# Altium integrated library FPGA 32-Bit Processors.IntLib: 7 symbols
Pins are listed as number, name and electrical type; pins without a type are passive.

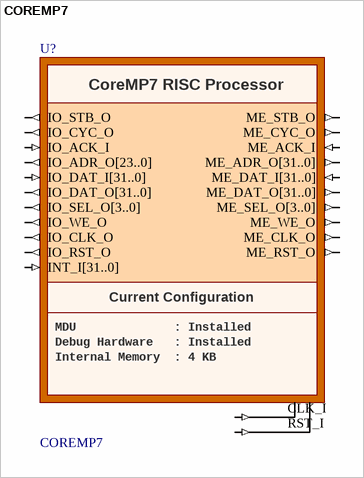
[diagram p0: symbol COREMP7]

## COREMP7
designator U?
Actel CoreMP7 RISC Processor; Nexus_JTAG_Device: True; Nexus_Core: Processor_OCDS; Nexus_JTAG_Order: 0; ConfigurationParameters: {}Version[1.0]{}Option_Processor[8]{}Option_Memory[2]{}Option_MDU[0]{}Option_OCDS[0]{}Option_Shifter[0]{}Option_InterruptCount[32]{}Option_DebugWhenReset[0]{}; ConfiguratorName: FPGA_MCU32; ProgramLogicalTopAddress: 0; ComponentLink1Description: Core &Resource Usage; ComponentLink1URL: CR0140 FPGA Processor Resource Usage.pdf#page=2; HelpURL: https://wiki.altium.com/display/ADOH/Actel+CoreMP7; LastRevisionNo: 1.00.00; Published: 03-May-2007; Publisher: Altium Limited; ComponentLink2Description: Embedded &Tools Guide; ComponentLink2URL: https://wiki.altium.com/download/attachments/3080681/GU0116+Using+the+ARM+Embedded+Tools.pdf?version=1; ComponentLink3Description: Embedded T&echnical References; ComponentLink3URL: https://wiki.altium.com/download/attachments/3080681/TR0131+ARM+Embedded+Tools+Reference.pdf?version=1; ComponentLink4Description: Manufacturers D&ata Sheet; ComponentLink4URL: http://www.actel.com/documents/CoreMP7_DS.pdf
pins: CLK_I (in), INT_I[31..0] (in), IO_ACK_I (in), IO_ADR_O[23..0] (out), IO_CLK_O (out), IO_CYC_O (out), IO_DAT_I[31..0] (in), IO_DAT_O[31..0] (out), IO_RST_O (out), IO_SEL_O[3..0] (out), IO_STB_O (out), IO_WE_O (out), ME_ACK_I (in), ME_ADR_O[31..0] (out), ME_CLK_O (out), ME_CYC_O (out), ME_DAT_I[31..0] (in), ME_DAT_O[31..0] (out), ME_RST_O (out), ME_SEL_O[3..0] (out), ME_STB_O (out), ME_WE_O (out), RST_I (in)
text: CoreMP7 RISC Processor; Current Configuration; MDU              : Installed; Debug Hardware   : Installed; Internal Memory  : 4 KB


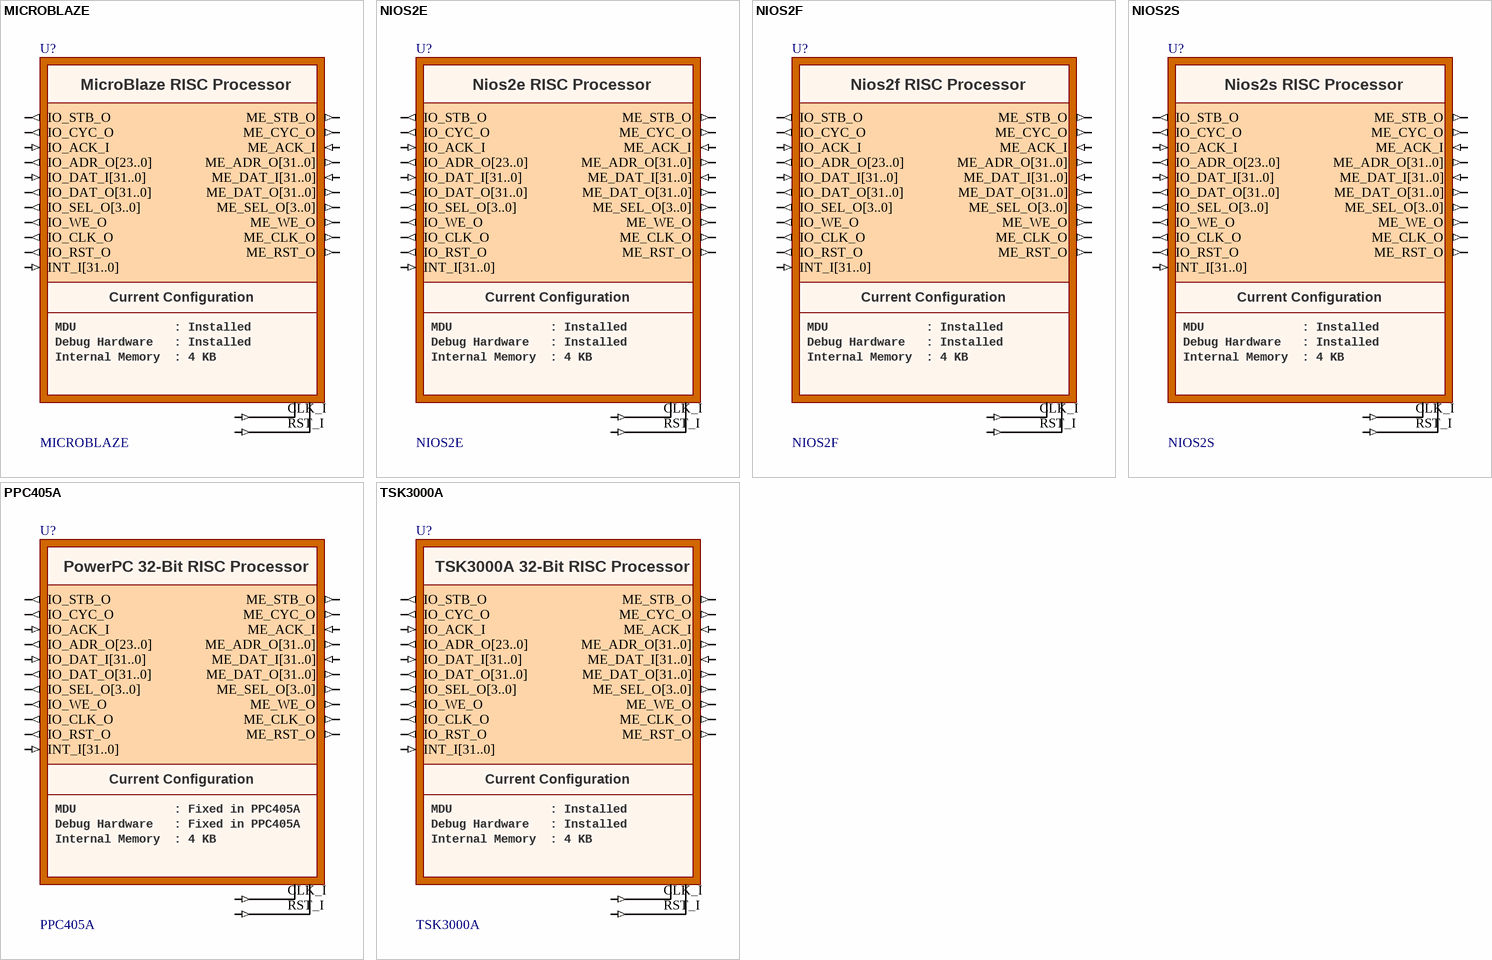
[diagram p1: symbols MICROBLAZE to TSK3000A]

## MICROBLAZE
designator U?
Xilinx MicroBlaze RISC Processor; ChildModel1: microblaze_0_wrapper.NGC; Nexus_JTAG_Device: True; Nexus_Core: Processor_OCDS; Nexus_JTAG_Order: 0; ConfigurationParameters: {}Version[1.0]{}Option_Processor[3]{}Option_Memory[2]{}Option_MDU[0]{}Option_OCDS[0]{}Option_Shifter[0]{}Option_InterruptCount[32]{}Option_DebugWhenReset[0]{}; ConfiguratorName: FPGA_MCU32; ProgramLogicalTopAddress: 0; LastRevisionNo: 1.00.00; Published: 26-Sep-2005; Publisher: Altium Limited; ComponentLink1Description: Core &Resource Usage; ComponentLink2Description: Embedded &Tools Guide; ComponentLink2URL: https://wiki.altium.com/download/attachments/3080677/GU0114+Using+the+MicroBlaze+Embedded+Tools.pdf?version=1; ComponentLink3Description: Embedded T&echnical References; ComponentLink3URL: https://wiki.altium.com/download/attachments/3080677/TR0129+MicroBlaze+Embedded+Tools+Reference.pdf?version=1; HelpURL: https://wiki.altium.com/display/ADOH/Xilinx+MicroBlaze; ComponentLink1URL: CR0140 FPGA Processor Resource Usage.pdf#page=3; ComponentLink4Description: Manufacturers D&ata Sheet; ComponentLink4URL: http://www.xilinx.com/ise/embedded/mb_ref_guide.pdf
pins: CLK_I (in), INT_I[31..0] (in), IO_ACK_I (in), IO_ADR_O[23..0] (out), IO_CLK_O (out), IO_CYC_O (out), IO_DAT_I[31..0] (in), IO_DAT_O[31..0] (out), IO_RST_O (out), IO_SEL_O[3..0] (out), IO_STB_O (out), IO_WE_O (out), ME_ACK_I (in), ME_ADR_O[31..0] (out), ME_CLK_O (out), ME_CYC_O (out), ME_DAT_I[31..0] (in), ME_DAT_O[31..0] (out), ME_RST_O (out), ME_SEL_O[3..0] (out), ME_STB_O (out), ME_WE_O (out), RST_I (in)
text: MicroBlaze RISC Processor; Current Configuration; MDU              : Installed; Debug Hardware   : Installed; Internal Memory  : 4 KB

## NIOS2E
designator U?
Altera Nios2e RISC Processor; Nexus_JTAG_Device: True; Nexus_Core: Processor_OCDS; Nexus_JTAG_Order: 0; ConfigurationParameters: {}Version[1.0]{}Option_Processor[5]{}Option_Memory[2]{}Option_MDU[0]{}Option_OCDS[0]{}Option_Shifter[0]{}Option_InterruptCount[32]{}Option_DebugWhenReset[0]{}; ConfiguratorName: FPGA_MCU32; ProgramLogicalTopAddress: 0; ComponentLink1Description: Core &Resource Usage; ComponentLink1URL: CR0140 FPGA Processor Resource Usage.pdf#page=4; HelpURL: https://wiki.altium.com/display/ADOH/Altera+Nios+II; LastRevisionNo: 1.00.00; Published: 16-May-2006; Publisher: Altium Limited; ComponentLink2Description: Embedded &Tools Guide; ComponentLink2URL: https://wiki.altium.com/download/attachments/3080679/GU0115+Using+the+Nios+II+Embedded+Tools.pdf?version=1; ComponentLink3Description: Embedded T&echnical References; ComponentLink3URL: https://wiki.altium.com/download/attachments/3080679/TR0130+Nios+II+Embedded+Tools+Reference.pdf?version=1; ComponentLink4Description: Manufacturers D&ata Sheet; ComponentLink4URL: http://www.altera.com/literature/lit-nio2.jsp
pins: CLK_I (in), INT_I[31..0] (in), IO_ACK_I (in), IO_ADR_O[23..0] (out), IO_CLK_O (out), IO_CYC_O (out), IO_DAT_I[31..0] (in), IO_DAT_O[31..0] (out), IO_RST_O (out), IO_SEL_O[3..0] (out), IO_STB_O (out), IO_WE_O (out), ME_ACK_I (in), ME_ADR_O[31..0] (out), ME_CLK_O (out), ME_CYC_O (out), ME_DAT_I[31..0] (in), ME_DAT_O[31..0] (out), ME_RST_O (out), ME_SEL_O[3..0] (out), ME_STB_O (out), ME_WE_O (out), RST_I (in)
text: Nios2e RISC Processor; Current Configuration; MDU              : Installed; Debug Hardware   : Installed; Internal Memory  : 4 KB

## NIOS2F
designator U?
Altera Nios2f RISC Processor; Nexus_JTAG_Device: True; Nexus_Core: Processor_OCDS; Nexus_JTAG_Order: 0; ConfigurationParameters: {}Version[1.0]{}Option_Processor[7]{}Option_Memory[2]{}Option_MDU[0]{}Option_OCDS[0]{}Option_Shifter[0]{}Option_InterruptCount[32]{}Option_DebugWhenReset[0]{}; ConfiguratorName: FPGA_MCU32; ProgramLogicalTopAddress: 0; ComponentLink1Description: Core &Resource Usage; ComponentLink1URL: CR0140 FPGA Processor Resource Usage.pdf#page=4; HelpURL: https://wiki.altium.com/display/ADOH/Altera+Nios+II; LastRevisionNo: 1.00.00; Published: 16-May-2006; Publisher: Altium Limited; ComponentLink2Description: Embedded &Tools Guide; ComponentLink2URL: https://wiki.altium.com/download/attachments/3080679/GU0115+Using+the+Nios+II+Embedded+Tools.pdf?version=1; ComponentLink3Description: Embedded T&echnical References; ComponentLink3URL: https://wiki.altium.com/download/attachments/3080679/TR0130+Nios+II+Embedded+Tools+Reference.pdf?version=1; ComponentLink4Description: Manufacturers D&ata Sheet; ComponentLink4URL: http://www.altera.com/literature/lit-nio2.jsp
pins: CLK_I (in), INT_I[31..0] (in), IO_ACK_I (in), IO_ADR_O[23..0] (out), IO_CLK_O (out), IO_CYC_O (out), IO_DAT_I[31..0] (in), IO_DAT_O[31..0] (out), IO_RST_O (out), IO_SEL_O[3..0] (out), IO_STB_O (out), IO_WE_O (out), ME_ACK_I (in), ME_ADR_O[31..0] (out), ME_CLK_O (out), ME_CYC_O (out), ME_DAT_I[31..0] (in), ME_DAT_O[31..0] (out), ME_RST_O (out), ME_SEL_O[3..0] (out), ME_STB_O (out), ME_WE_O (out), RST_I (in)
text: Nios2f RISC Processor; Current Configuration; MDU              : Installed; Debug Hardware   : Installed; Internal Memory  : 4 KB

## NIOS2S
designator U?
Altera Nios2s RISC Processor; Nexus_JTAG_Device: True; Nexus_Core: Processor_OCDS; Nexus_JTAG_Order: 0; ConfigurationParameters: {}Version[1.0]{}Option_Processor[6]{}Option_Memory[2]{}Option_MDU[0]{}Option_OCDS[0]{}Option_Shifter[0]{}Option_InterruptCount[32]{}Option_DebugWhenReset[0]{}; ConfiguratorName: FPGA_MCU32; ProgramLogicalTopAddress: 0; ComponentLink1Description: Core &Resource Usage; ComponentLink1URL: CR0140 FPGA Processor Resource Usage.pdf#page=4; HelpURL: https://wiki.altium.com/display/ADOH/Altera+Nios+II; LastRevisionNo: 1.00.00; Published: 16-May-2006; Publisher: Altium Limited; ComponentLink2Description: Embedded &Tools Guide; ComponentLink2URL: https://wiki.altium.com/download/attachments/3080679/GU0115+Using+the+Nios+II+Embedded+Tools.pdf?version=1; ComponentLink3Description: Embedded T&echnical References; ComponentLink3URL: https://wiki.altium.com/download/attachments/3080679/TR0130+Nios+II+Embedded+Tools+Reference.pdf?version=1; ComponentLink4Description: Manufacturers D&ata Sheet; ComponentLink4URL: http://www.altera.com/literature/lit-nio2.jsp
pins: CLK_I (in), INT_I[31..0] (in), IO_ACK_I (in), IO_ADR_O[23..0] (out), IO_CLK_O (out), IO_CYC_O (out), IO_DAT_I[31..0] (in), IO_DAT_O[31..0] (out), IO_RST_O (out), IO_SEL_O[3..0] (out), IO_STB_O (out), IO_WE_O (out), ME_ACK_I (in), ME_ADR_O[31..0] (out), ME_CLK_O (out), ME_CYC_O (out), ME_DAT_I[31..0] (in), ME_DAT_O[31..0] (out), ME_RST_O (out), ME_SEL_O[3..0] (out), ME_STB_O (out), ME_WE_O (out), RST_I (in)
text: Nios2s RISC Processor; Current Configuration; MDU              : Installed; Debug Hardware   : Installed; Internal Memory  : 4 KB

## PPC405A
designator U?
Xilinx PowerPC PPC405 RISC Processor (Virtex-4); ChildModel1: TSK3000A_MCU; Nexus_JTAG_Device: True; Nexus_Core: Processor_OCDS; Nexus_JTAG_Order: 0; ChildModel2: TSK3000A_MDU; ChildModel3: TSK3000A_OCDS; ChildModel4: TSK3000A_Shift_Barrel; ChildModel5: TSK3000A_Shift_Sequential; ChildModel6: Mult_32x32; ConfigurationParameters: {}Option_Processor[1]{}Option_Memory[2]{}Option_MDU[0]{}Option_OCDS[0]{}Option_Shifter[0]{}Option_InterruptCount[32]{}Option_DebugWhenReset[0]{}; ChildModel7: m33x33; ConfiguratorName: FPGA_MCU32; ProgramLogicalTopAddress: 0; ComponentLink1Description: Core &Resource Usage; ComponentLink1URL: CR0140 FPGA Processor Resource Usage.pdf#page=6; HelpURL: https://wiki.altium.com/display/ADOH/Xilinx+PowerPC+%28PPC405A%29; LastRevisionNo: 1.00.00; Published: 17-Nov-2004; Publisher: Altium Limited; ComponentLink2Description: Embedded &Tools Guide; ComponentLink2URL: https://wiki.altium.com/download/attachments/3080683/GU0110+Using+the+PowerPC+Embedded+Tools.pdf?version=1; ComponentLink3Description: Embedded T&echnical References; ComponentLink3URL: https://wiki.altium.com/download/attachments/3080683/TR0108+PowerPC+Embedded+Tools+Reference.pdf?version=1
pins: CLK_I (in), INT_I[31..0] (in), IO_ACK_I (in), IO_ADR_O[23..0] (out), IO_CLK_O (out), IO_CYC_O (out), IO_DAT_I[31..0] (in), IO_DAT_O[31..0] (out), IO_RST_O (out), IO_SEL_O[3..0] (out), IO_STB_O (out), IO_WE_O (out), ME_ACK_I (in), ME_ADR_O[31..0] (out), ME_CLK_O (out), ME_CYC_O (out), ME_DAT_I[31..0] (in), ME_DAT_O[31..0] (out), ME_RST_O (out), ME_SEL_O[3..0] (out), ME_STB_O (out), ME_WE_O (out), RST_I (in)
text: PowerPC 32-Bit RISC Processor; Current Configuration; MDU              : Fixed in PPC405A; Debug Hardware   : Fixed in PPC405A; Internal Memory  : 4 KB

## TSK3000A
designator U?
TSK3000A OCD Microprocessor; ChildModel1: TSK3000A_MCU; Nexus_JTAG_Device: True; Nexus_Core: Processor_OCDS; Nexus_JTAG_Order: 0; ChildModel2: TSK3000A_MDU; ChildModel3: TSK3000A_OCDS; ChildModel4: TSK3000A_Shift_Barrel; ChildModel5: TSK3000A_Shift_Sequential; ChildModel6: Mult_32x32; ConfigurationParameters: {}Option_Memory[2]{}Option_MDU[0]{}Option_OCDS[0]{}Option_Shifter[0]{}Option_InterruptCount[32]{}Option_InterruptCount[32]{}; ChildModel7: m33x33; ConfiguratorName: FPGA_MCU32; ProgramLogicalTopAddress: 0; ComponentLink1Description: Core &Resource Usage; ComponentLink1URL: CR0140 FPGA Processor Resource Usage.pdf#page=22; HelpURL: https://wiki.altium.com/display/ADOH/TSK3000A; LastRevisionNo: 1.00.00; Published: 17-Nov-2004; Publisher: Altium Limited; ComponentLink2Description: Embedded &Tools Guide; ComponentLink2URL: https://wiki.altium.com/download/attachments/3080675/GU0111+Using+the+TSK3000+Embedded+Tools.pdf?version=1; ComponentLink3Description: Embedded T&echnical References; ComponentLink3URL: https://wiki.altium.com/download/attachments/3080675/TR0109+TSK3000+Embedded+Tools+Reference.pdf?version=1
pins: CLK_I (in), INT_I[31..0] (in), IO_ACK_I (in), IO_ADR_O[23..0] (out), IO_CLK_O (out), IO_CYC_O (out), IO_DAT_I[31..0] (in), IO_DAT_O[31..0] (out), IO_RST_O (out), IO_SEL_O[3..0] (out), IO_STB_O (out), IO_WE_O (out), ME_ACK_I (in), ME_ADR_O[31..0] (out), ME_CLK_O (out), ME_CYC_O (out), ME_DAT_I[31..0] (in), ME_DAT_O[31..0] (out), ME_RST_O (out), ME_SEL_O[3..0] (out), ME_STB_O (out), ME_WE_O (out), RST_I (in)
text: TSK3000A 32-Bit RISC Processor; Current Configuration; MDU              : Installed; Debug Hardware   : Installed; Internal Memory  : 4 KB